# Altium footprint library CHIP_SMD.PcbLib: 1 footprints
Each footprint in its own frame and in the unit in brackets; x right, y up, seen from the top. Pads: shape width x height; smd on the part's side, far side on the other; paste and mask are expansions set on the pad; w line width, h text height; cw(c..) or ccw(c..) is an arc to the next point about the centre after c.
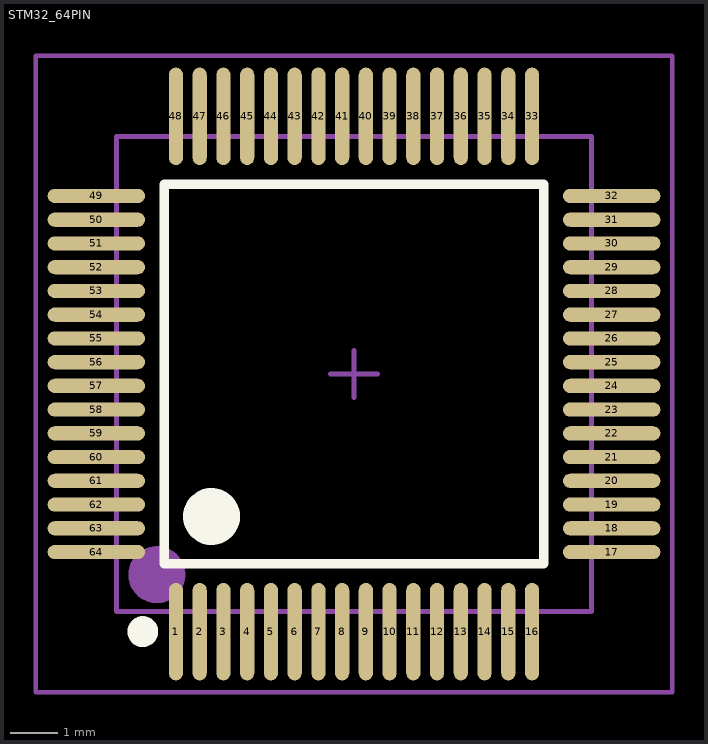
[diagram p0: the footprint, top view; thin cyan lines are the x and y axes]

## STM32_64PIN [mm]
pads (64):
  oval 0.3x2.05 smd mask+0.05: 1(7.696,-48.764) 2(8.196,-48.764) 3(8.696,-48.764) 4(9.196,-48.764) 5(9.696,-48.764) 6(10.196,-48.764) 7(10.696,-48.764) 8(11.196,-48.764) 9(11.696,-48.764) 10(12.196,-48.764) 11(12.696,-48.764) 12(13.196,-48.764) 13(13.696,-48.764) 14(14.196,-48.764) 15(14.696,-48.764) 16(15.196,-48.764) 33(15.196,-37.914) 34(14.696,-37.914) 35(14.196,-37.914) 36(13.696,-37.914) 37(13.196,-37.914) 38(12.696,-37.914) 39(12.196,-37.914) 40(11.696,-37.914) 41(11.196,-37.914) 42(10.696,-37.914) 43(10.196,-37.914) 44(9.696,-37.914) 45(9.196,-37.914) 46(8.696,-37.914) 47(8.196,-37.914) 48(7.696,-37.914)
  oval 2.05x0.3 smd mask+0.05: 17(16.871,-47.089) 18(16.871,-46.589) 19(16.871,-46.089) 20(16.871,-45.589) 21(16.871,-45.089) 22(16.871,-44.589) 23(16.871,-44.089) 24(16.871,-43.589) 25(16.871,-43.089) 26(16.871,-42.589) 27(16.871,-42.089) 28(16.871,-41.589) 29(16.871,-41.089) 30(16.871,-40.589) 31(16.871,-40.089) 32(16.871,-39.589) 49(6.021,-39.589) 50(6.021,-40.089) 51(6.021,-40.589) 52(6.021,-41.089) 53(6.021,-41.589) 54(6.021,-42.089) 55(6.021,-42.589) 56(6.021,-43.089) 57(6.021,-43.589) 58(6.021,-44.089) 59(6.021,-44.589) 60(6.021,-45.089) 61(6.021,-45.589) 62(6.021,-46.089) 63(6.021,-46.589) 64(6.021,-47.089)
Top Overlay:
  circle w0.6: c8.446,-46.339 r0.3
  circle w0.4: c6.996,-48.764 r0.125
  lines w0.2: 7.446,-47.339 7.446,-39.339 15.446,-39.339 15.446,-47.339 7.446,-47.339
Mechanical 13:
  circle w0.6: c7.296,-47.564 r0.3
  lines w0.1: 6.446,-48.339 6.446,-38.339 16.446,-38.339 16.446,-48.339 6.446,-48.339
Mechanical 14:
  text ".Designator" at 9.071,-42.914 h2
Mechanical 15:
  lines w0.1: 10.946,-43.339 11.946,-43.339 ; 11.446,-43.839 11.446,-42.839 ; 4.746,-50.039 4.746,-36.639 18.146,-36.639 18.146,-50.039 4.746,-50.039
Mechanical 16:
  text ".comment" at 7.446,-44.039 h1
3D body "TSQFP50P1200X1200X145-64N.STEP": height 1.45, standoff 0, extent 5.446,-49.339 17.446,-37.339